# EAGLE library part ID-? (library RF_Wireless)
RFID Reader Modules Source: Datasheet ID-2LA <https://cdn.sos.sk/productdata/ff/8d/b38426a9/id-12-la-1.pdf> Datasheet ID-3LA <http://cdn.sparkfun.com/datasheets/Sensors/ID/ID-3LA.pdf>
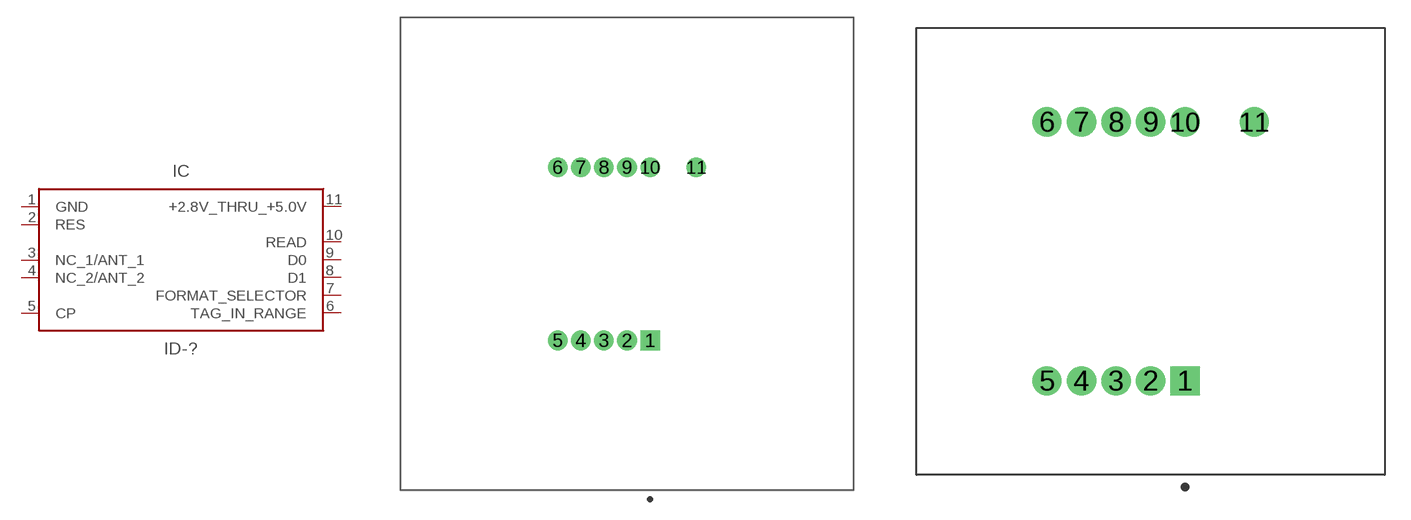
[diagram p2: symbol with the pads of ID20LA; footprints ID20LA, ID12LA]

Designator prefix IC

## ID-20LA (CATEGORY: RF_Wireless; DESCRIPTION: RFID Reader Low Voltage Series Reader Modules; MANUFACTURER: ID-Innovations; MPN: ID-20LA; PART_STATUS: ACTIVE; ROHS_COMPLIANT: COMPLIANT; SUB_CATEGORY: RFID; TYPE: Module; VALUE: ID-20LA)  [ID20LA]
1  GND  pwr
2  RES
3  NC_1/ANT_1
4  NC_2/ANT_2
5  CP
6  TAG_IN_RANGE
7  FORMAT_SELECTOR
8  D1
9  D0
10  READ
11  +2.8V_THRU_+5.0V  pwr

## ID-12LA (CATEGORY: RF_Wireless; DESCRIPTION: RFID Transponders RFID Reader ID-3LA (125 kHz); MANUFACTURER: ID-INNOVATIONS advanced RFID design; MPN: ID-12LA; PART_STATUS: ACTIVE; ROHS_COMPLIANT: COMPLIANT; SUB_CATEGORY: RFID; TYPE: Module; VALUE: ID-12LA)  [ID12LA]
Pads as for ID20LA

## ID-3LA (CATEGORY: RF_Wireless; DESCRIPTION: RFID Transponders RFID Reader ID-3LA (125 kHz); MANUFACTURER: ID-INNOVATIONS advanced RFID design; MPN: ID-3LA; OPERATING_TEMPERATURE: -; PART_STATUS: ACTIVE; ROHS_COMPLIANT: COMPLIANT; SUB_CATEGORY: RFID; TYPE: Module; VALUE: ID-3LA)  [ID3LA]
Pads as for ID20LA

## Footprint ID20LA (pad centres in mm)
ID-20LA-6
drill 1.13 square: 1 0,0
drill 1.13: 2 -2,0; 3 -4,0; 4 -6,0; 5 -8,0; 6 -8,15; 7 -6,15; 8 -4,15; 9 -2,15; 10 0,15; 11 4,15

## Footprint ID12LA (pad centres in mm)
ID-20LA-6
drill 1.13 square: 1 0,0
drill 1.13: 2 -2,0; 3 -4,0; 4 -6,0; 5 -8,0; 6 -8,15; 7 -6,15; 8 -4,15; 9 -2,15; 10 0,15; 11 4,15

## Footprint ID3LA (pad centres in mm)
ID-20LA-6
drill 1.13 square: 1 0,0
drill 1.13: 2 -2,0; 3 -4,0; 4 -6,0; 5 -8,0; 6 -8,15; 7 -6,15; 8 -4,15; 9 -2,15; 10 0,15; 11 4,15